# EAGLE library part EL1881 (library CVBS_Sync_Stripper)
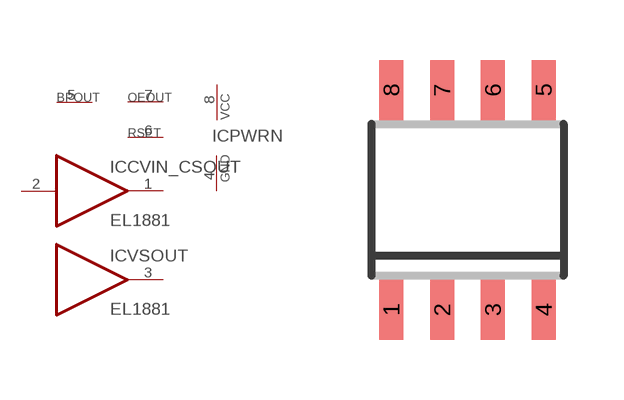
[diagram p2: symbol with the pads of SOIC8; footprint SOIC8]

Designator prefix IC; gates CVIN_CSOUT=BUFFER G$2=OUTPUT_PINS PWRN=PWRN VSOUT=BUFFERNOIN

## EL1881  [SOIC8]
1  CVIN_CSOUT:O  out
2  CVIN_CSOUT:I
3  VSOUT:O  out
4  PWRN:GND  pwr
5  G$2:BPOUT  out
6  G$2:RSET
7  G$2:OEOUT  out
8  PWRN:VCC  pwr

## Footprint SOIC8 (pad centres in mm)
SOIC-8 CASE 751-07 Source: http://www.onsemi.com/pub/Collateral/MC34164-D.PDF D (R-PDSO-G8)PLATIC SMALL-OUTLINE PACKAGE Source: http://focus.ti.com/lit/ds/symlink/tlc27l2.pdf
smd 0.6 x 1.5: 1 -1.905,-2.75; 2 -0.635,-2.75; 3 0.635,-2.75; 4 1.905,-2.75; 5 1.905,2.75; 6 0.635,2.75; 7 -0.635,2.75; 8 -1.905,2.75